# Altium footprint library ST_AN5129.PcbLib: 1 footprints
Each footprint in its own frame and in the unit in brackets; x right, y up, seen from the top. Pads: shape width x height; smd on the part's side, far side on the other; paste and mask are expansions set on the pad; w line width, h text height; cw(c..) or ccw(c..) is an arc to the next point about the centre after c.
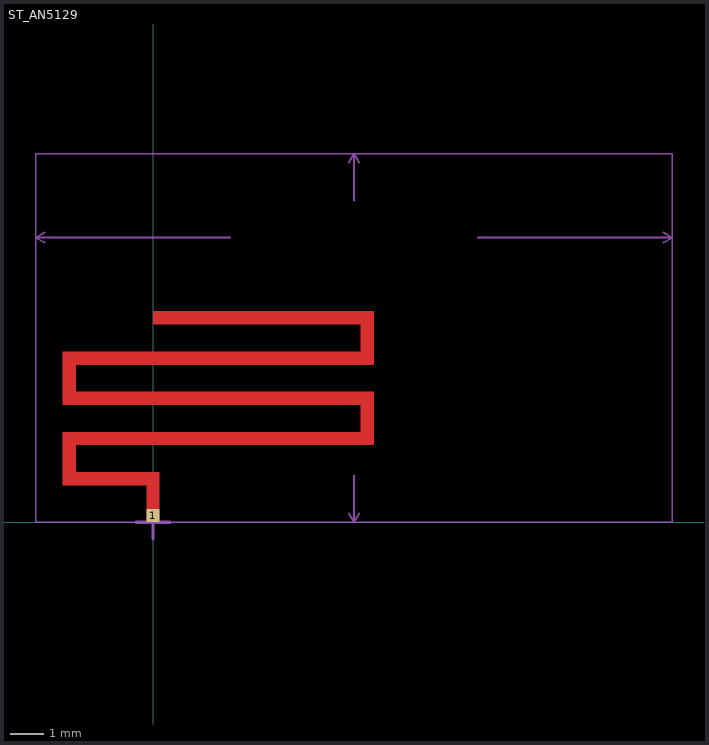
[diagram p0: the footprint, top view; thin cyan lines are the x and y axes]

## ST_AN5129 [mm]
pads (1):
  rect 0.4x0.4 smd mask+0: 1(0,0.2)
Top Layer:
  rectangle: -0.2,0 0.2,1.5
  region: 0.2,1.1 0.2,1.5 -2.7,1.5 -2.7,1.1
  region: -2.3,2.7 -2.7,2.7 -2.7,1.1 -2.3,1.1
  region: 6.6,2.3 6.6,2.7 -2.7,2.7 -2.7,2.3
  rectangle: 6.2,2.3 6.6,3.9
  region: 6.6,3.5 6.6,3.9 -2.7,3.9 -2.7,3.5
  region: -2.3,5.1 -2.7,5.1 -2.7,3.5 -2.3,3.5
  region: 6.6,4.7 6.6,5.1 -2.7,5.1 -2.7,4.7
  rectangle: 6.2,4.7 6.6,6.3
  region: 6.6,5.9 6.6,6.3 0,6.3 0,5.9
Mechanical 15:
  lines w0.05: -3.24,8.35 -3.5,8.5 ; -3.24,8.65 -3.5,8.5 ; 2.3,8.5 -3.5,8.5 ; 5.85,0.26 6,0 ; 5.85,10.74 6,11 ; 6,1.4 6,0 ; 6,9.6 6,11 ; 6.15,0.26 6,0 ; 6.15,10.74 6,11 ; 9.7,8.5 15.5,8.5 ; 15.24,8.35 15.5,8.5 ; 15.24,8.65 15.5,8.5 ; -3.5,0 -3.5,11 15.5,11 15.5,0 -3.5,0
  lines w0.1: -0.5,0 0.5,0 ; 0,-0.5 0,0.5
  text "GND Plane Edge" at 0.556,1.667 h1
  text "PCB Edge" at 2.703,8.167 h1